# EAGLE library part 691247610006 (library Eagle_WR-TBL Rising Cage Clamp (rev20a))
WR-TBL Serie 2476 - 10.16 mm Horizontal Entry w. Rising Cage Clamp KIND PROPERTIES Pitch 10.16 mm MATERIAL PROPERTIES Insulator Material PA6/66 Insulator Flammability Rating UL94 V-0 Insulator Color Green Contact Material Copper Alloy Contact Plating Nickel Terminal Screw Material Steel Terminal Screw Plating Zinc Wire Guard Material Copper Alloy with Tin over Nickel GENERAL INFORMATION Operating Temperature -30 up to +120 °C Compliance Lead free / RoHS ELECTRICAL PROPERTIES IR UL 20 A IR VDE 20 A Working Voltage [UL] 300 V (AC) Working Voltage [VDE] 750 V (AC) Withstanding Voltage [UL] 1600 V (AC) Withstanding Voltage [VDE] 3000 V (AC) Contact Resistance 20 mΩ MECHANICAL PROPERTIES Wire Strip Length 6 (mm) Screw M3 CERTIFICATION UL Approval E150931 Cat No. MRT18 (5) VDE Approval 40022114 Type MRT18 PACKAGING PROPERTIES Packaging Box <https://www.we-online.com/catalog/media/o86593v209%20Family_WR-TBL2_6912476100xx.jpg> Details see: https://www.we-online.com/catalog/en/TBL_10_16_2476_HORIZONTAL_ENTRY_W_RISING_CAGE_CLAMP_6912476100xx/ Updated by Ella Wu 2019-12-03 2019(C) Wurth Elektronik
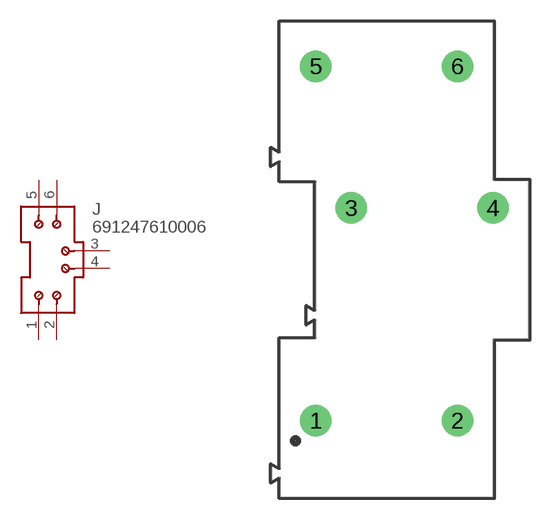
[diagram p140: symbol with the pads of 691247610006; footprint 691247610006]

Designator prefix J

## 691247610006 (IR-UL: 20A; IR-VDE: 20A; PART-NUMBER: 691247610006; PINS: 6; PITCH: 10.16mm; TYPE: Tripel Level Horizontal; WIRE: 12 to 30 (AWG) 3.31 to 0.05 (mm²); WORKING-VOLTAGE-UL: 300V (AC); WORKING-VOLTAGE-VDE: 750V (AC))  [691247610006]
1  5  pas
2  6  pas
3  3  pas
4  4  pas
5  1  pas
6  2  pas

## Footprint 691247610006 (pad centres in mm)
WR-TBL Serie 2476 - 10.16 mm Horizontal Entry w. Rising Cage Clamp Max Height =45mm , Pitch 10.16mm , 6 Pins
drill 1.5: 1 -7.62,-15.24; 2 2.54,-15.24; 3 -5.08,0; 4 5.08,0; 5 -7.62,10.16; 6 2.54,10.16